# EAGLE library part 15EDGRC-3.81-9P (library con-degson)
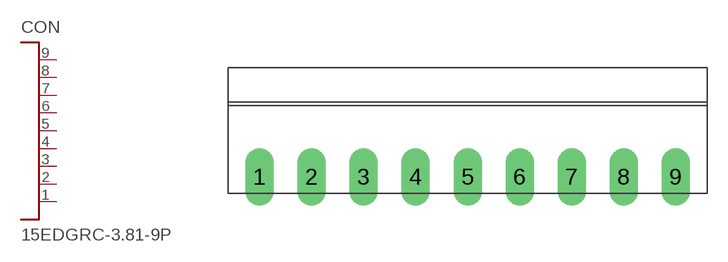
[diagram p26: symbol with the pads of 15EDGRC-3.81-9P; footprint 15EDGRC-3.81-9P]

Designator prefix CON

## 15EDGRC-3.81-9P  [15EDGRC-3.81-9P]
1  P$1
2  P$2
3  P$3
4  P$4
5  P$5
6  P$6
7  P$7
8  P$8
9  P$9

## Footprint 15EDGRC-3.81-9P (pad centres in mm)
drill 1.4 long: 1 -15.24,0; 2 -11.43,0; 3 -7.62,0; 4 -3.81,0; 5 0,0; 6 3.81,0; 7 7.62,0; 8 11.43,0; 9 15.24,0